# EAGLE library part ET60T_2 (library ET60T)
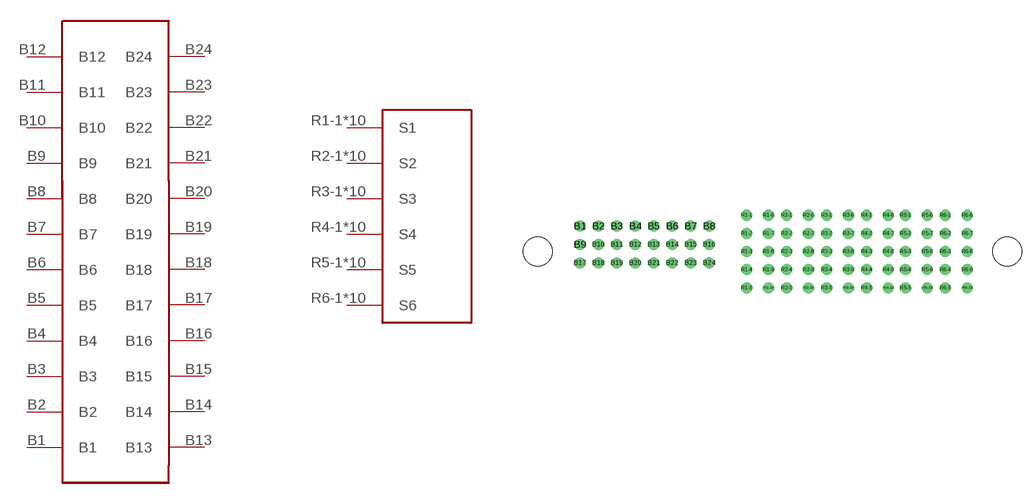
[diagram p1: symbol with the pads of ET60T_2; footprint ET60T_2]

Designator prefix -; gates G$1=ET60T_MIDDLE G$2=ET60T_SIDE

## ET60T_2  [ET60T_2]
B1  G$1:B1
B2  G$1:B2
B3  G$1:B3
B4  G$1:B4
B5  G$1:B5
B6  G$1:B6
B7  G$1:B7
B8  G$1:B8
B9  G$1:B9
B10  G$1:B10
B11  G$1:B11
B12  G$1:B12
B13  G$1:B13
B14  G$1:B14
B15  G$1:B15
B16  G$1:B16
B17  G$1:B17
B18  G$1:B18
B19  G$1:B19
B20  G$1:B20
B21  G$1:B21
B22  G$1:B22
B23  G$1:B23
B24  G$1:B24
R1-1  G$2:S1
R1-2  G$2:S1
R1-3  G$2:S1
R1-4  G$2:S1
R1-5  G$2:S1
R1-6  G$2:S1
R1-7  G$2:S1
R1-8  G$2:S1
R1-9  G$2:S1
R1-10  G$2:S1
R2-1  G$2:S2
R2-2  G$2:S2
R2-3  G$2:S2
R2-4  G$2:S2
R2-5  G$2:S2
R2-6  G$2:S2
R2-7  G$2:S2
R2-8  G$2:S2
R2-9  G$2:S2
R2-10  G$2:S2
R3-1  G$2:S3
R3-2  G$2:S3
R3-3  G$2:S3
R3-4  G$2:S3
R3-5  G$2:S3
R3-6  G$2:S3
R3-7  G$2:S3
R3-8  G$2:S3
R3-9  G$2:S3
R3-10  G$2:S3
R4-1  G$2:S4
R4-2  G$2:S4
R4-3  G$2:S4
R4-4  G$2:S4
R4-5  G$2:S4
R4-6  G$2:S4
R4-7  G$2:S4
R4-8  G$2:S4
R4-9  G$2:S4
R4-10  G$2:S4
R5-1  G$2:S5
R5-2  G$2:S5
R5-3  G$2:S5
R5-4  G$2:S5
R5-5  G$2:S5
R5-6  G$2:S5
R5-7  G$2:S5
R5-8  G$2:S5
R5-9  G$2:S5
R5-10  G$2:S5
R6-1  G$2:S6
R6-2  G$2:S6
R6-3  G$2:S6
R6-4  G$2:S6
R6-5  G$2:S6
R6-6  G$2:S6
R6-7  G$2:S6
R6-8  G$2:S6
R6-9  G$2:S6
R6-10  G$2:S6

## Footprint ET60T_2 (pad centres in mm)
drill 1.02 pad 1.5: B1 -8.89,2.54; B2 -6.35,2.54; B3 -3.81,2.54; B4 -1.27,2.54; B5 1.27,2.54; B6 3.81,2.54; B7 6.35,2.54; B8 8.89,2.54; B9 -8.89,0; B10 -6.35,0; B11 -3.81,0; B12 -1.27,0; B13 1.27,0; B14 3.81,0; B15 6.35,0; B16 8.89,0; B17 -8.89,-2.54; B18 -6.35,-2.54; B19 -3.81,-2.54; B20 -1.27,-2.54; B21 1.27,-2.54; B22 3.81,-2.54; B23 6.35,-2.54; B24 8.89,-2.54; R1-1 14.06,4.04; R1-2 14.06,1.54; R1-3 14.06,-0.96; R1-4 14.06,-3.46; R1-5 14.06,-5.96; R1-6 17.06,4.04; R1-7 17.06,1.54; R1-8 17.06,-0.96; R1-9 17.06,-3.46; R1-10 17.06,-5.96; R2-1 19.56,4.04; R2-2 19.56,1.54; R2-3 19.56,-0.96; R2-4 19.56,-3.46; R2-5 19.56,-5.96; R2-6 22.56,4.04; R2-7 22.56,1.54; R2-8 22.56,-0.96; R2-9 22.56,-3.46; R2-10 22.56,-5.96; R3-1 25.06,4.04; R3-2 25.06,1.54; R3-3 25.06,-0.96; R3-4 25.06,-3.46; R3-5 25.06,-5.96; R3-6 28.06,4.04; R3-7 28.06,1.54; R3-8 28.06,-0.96; R3-9 28.06,-3.46; R3-10 28.06,-5.96; R4-1 30.56,4.04; R4-2 30.56,1.54; R4-3 30.56,-0.96; R4-4 30.56,-3.46; R4-5 30.56,-5.96; R4-6 33.56,4.04; R4-7 33.56,1.54; R4-8 33.56,-0.96; R4-9 33.56,-3.46; R4-10 33.56,-5.96; R5-1 35.91,4.04; R5-2 35.91,1.54; R5-3 35.91,-0.96; R5-4 35.91,-3.46; R5-5 35.91,-5.96; R5-6 38.91,4.04; R5-7 38.91,1.54; R5-8 38.91,-0.96; R5-9 38.91,-3.46; R5-10 38.91,-5.96; R6-1 41.41,4.04; R6-2 41.41,1.54; R6-3 41.41,-0.96; R6-4 41.41,-3.46; R6-5 41.41,-5.96; R6-6 44.41,4.04; R6-7 44.41,1.54; R6-8 44.41,-0.96; R6-9 44.41,-3.46; R6-10 44.41,-5.96